# Altium footprint library PCB - LEADLESS - SON - TI SON-8 DRG.PCBLIB: 1 footprints
Each footprint in its own frame and in the unit in brackets; x right, y up, seen from the top. Pads: shape width x height; smd on the part's side, far side on the other; paste and mask are expansions set on the pad; w line width, h text height; cw(c..) or ccw(c..) is an arc to the next point about the centre after c.
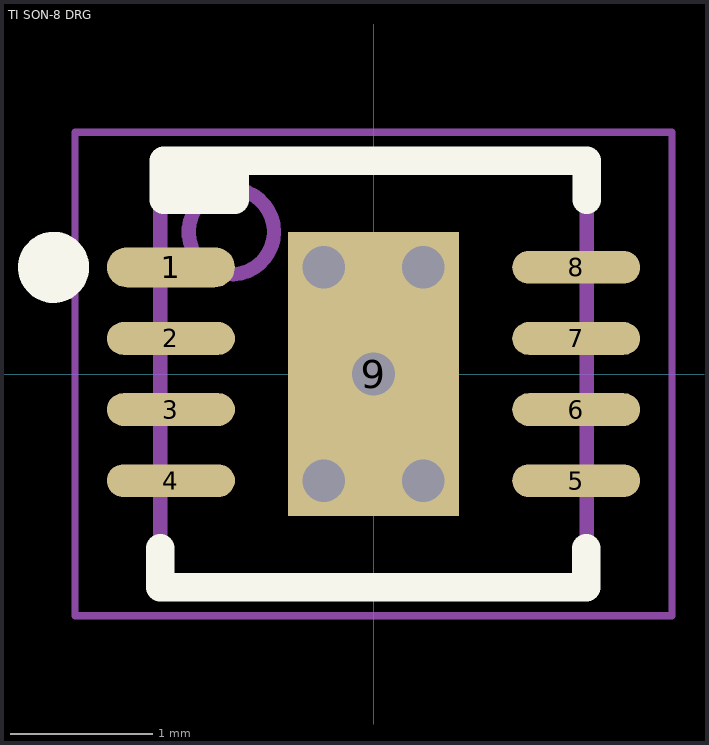
[diagram p0: the footprint, top view; thin cyan lines are the x and y axes]

## TI SON-8 DRG [mm] "SON, 8-Leads, Body 3.0x3.0mm, Pitch 0.5mm, Thermal Pad 1.20x2.0mm, IPC Medium Density"
height 0.8
pads (9):
  oval 0.9x0.28 smd paste-0.015 mask+0.07: 1(-1.425,0.75)
  oval 0.9x0.23 smd paste-0.015 mask+0.07: 2(-1.425,0.25) 3(-1.425,-0.25) 4(-1.425,-0.75) 5(1.425,-0.75) 6(1.425,-0.25) 7(1.425,0.25) 8(1.425,0.75)
  rect 1.2x2 smd paste-3 mask+0.07: 9(0,0)
via 0,0 diameter 0.5 hole 0.3
via 0.35,0.75 diameter 0.5 hole 0.3
via 0.35,-0.75 diameter 0.5 hole 0.3
via -0.35,0.75 diameter 0.5 hole 0.3
via -0.35,-0.75 diameter 0.5 hole 0.3
Top Overlay:
  circle w0.25: c-2.25,0.75 r0.125
  rectangle: -1.475,1.225 -0.975,1.475
  lines w0.2: -1.5,-1.225 -1.5,-1.5 1.497,-1.5 1.497,-1.225 ; -0.975,1.475 -0.975,1.225 -1.475,1.225 -1.475,1.5 1.5,1.5 1.5,1.225
Top Paste:
  region: 0.5,0.95 -0.5,0.95 -0.5,0.1 0.5,0.1
  rectangle: -0.5,-0.95 0.5,-0.1
Mechanical 13:
  circle w0.1: c-1,1 r0.3
  lines w0.1: -1.5,-1.5 1.5,-1.5 1.5,1.5 -1.5,1.5 -1.5,-1.5
Mechanical 15:
  lines w0.05: -2.1,-1.7 2.1,-1.7 2.1,1.7 -2.1,1.7 -2.1,-1.7
  lines w0.1: -0.5,0 0.5,0 ; 0,-0.5 0,0.5
3D body "TI - WSON-8 DRG.step": height 0.85, standoff 0, extent -1.5,-1.5 1.5,1.5